# Altium footprint library ZZB_Lib.PcbLib: 83 footprints (part 5 of 6)
Each footprint in its own frame and in the unit in brackets; x right, y up, seen from the top. Pads: shape width x height; smd on the part's side, far side on the other; paste and mask are expansions set on the pad; w line width, h text height; cw(c..) or ccw(c..) is an arc to the next point about the centre after c.
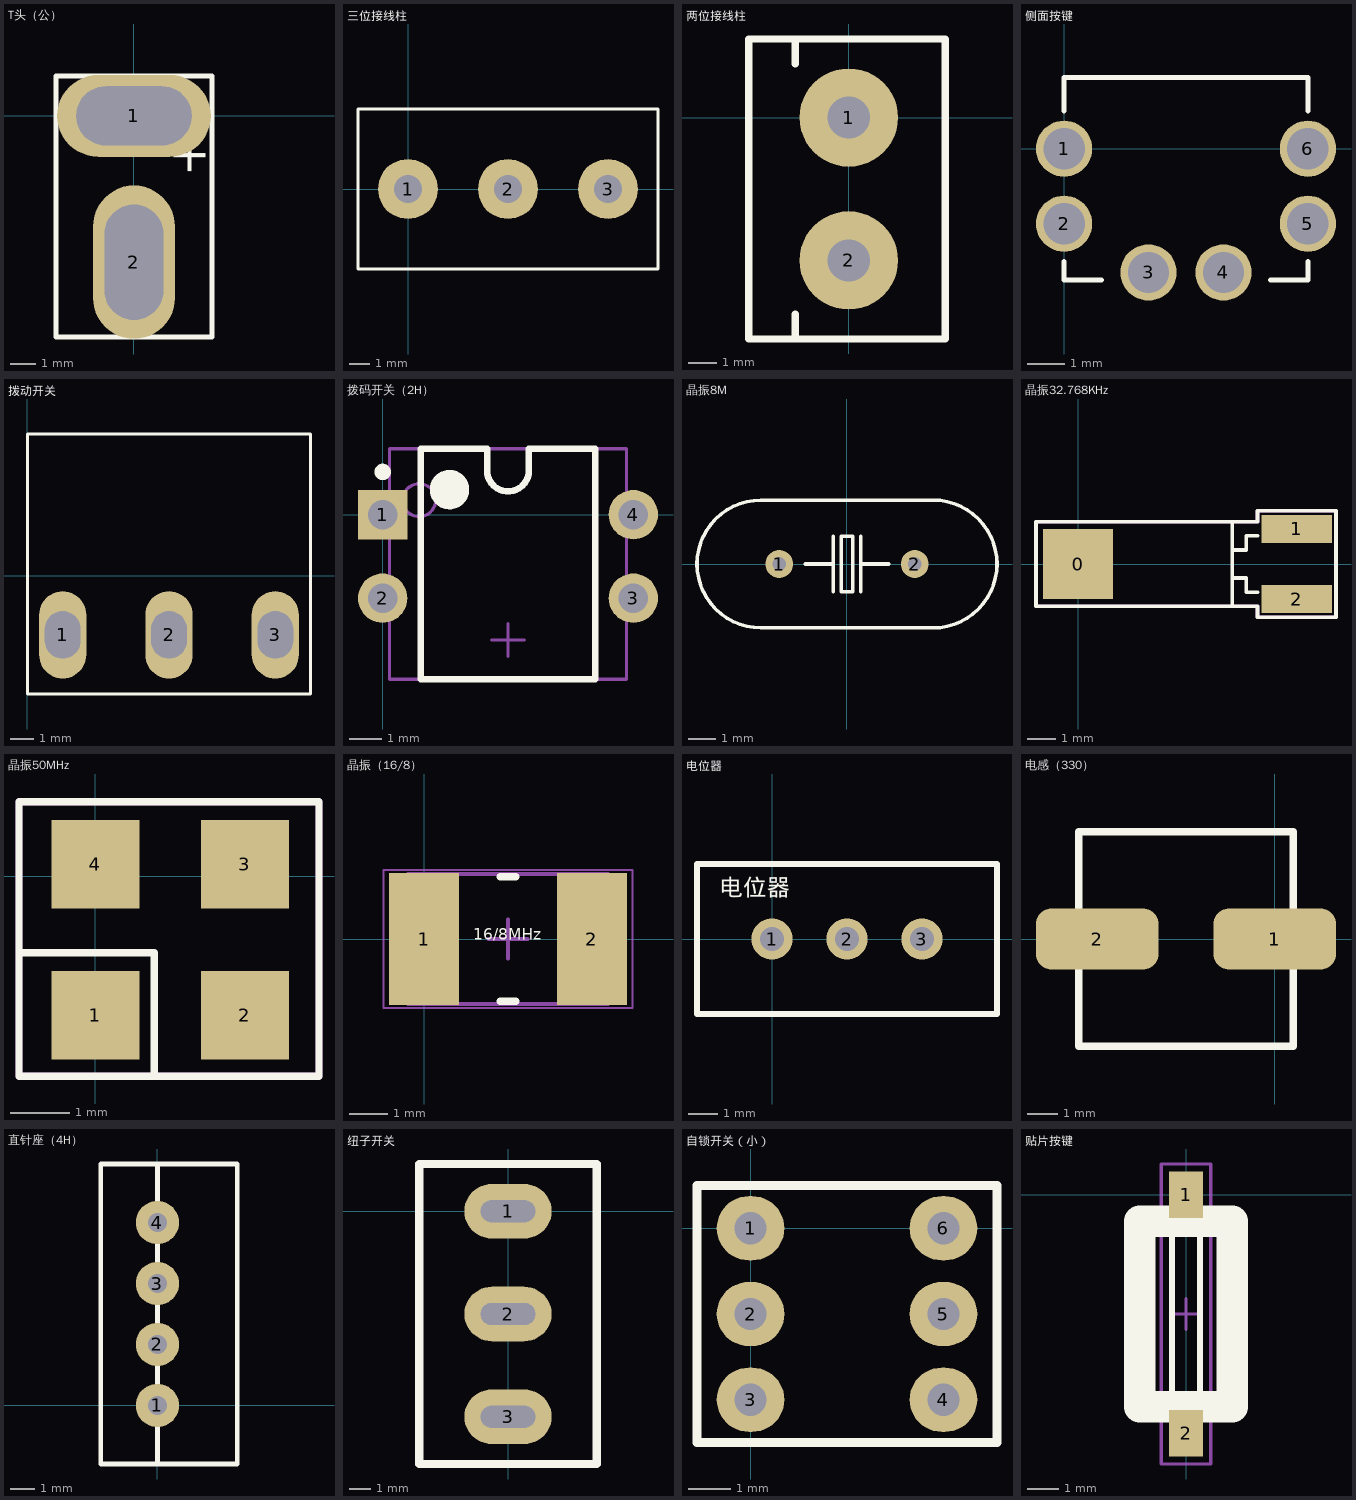
[diagram p4: the footprints below, top view; thin cyan lines are the x and y axes]

## T头（公） [mm]
pads (2):
  oval 6x3.2 hole 2.3 slot 4.5 at 0 deg: 1(0,0)
  oval 3.2x6 hole 2.3 slot 4.5 at 90 deg: 2(0,-5.715)
Top Overlay:
  lines w0.2: -3.048,-8.636 3.048,-8.636 3.048,1.55 -3.048,1.55 -3.048,-8.636
  text "+" at 3.285,-2.372 h2.5

## 三位接线柱 [mm]
height 10
pads (3):
  round 3 hole 1.4: 1(0,0) 2(5,0) 3(10,0)
Top Overlay:
  lines w0.127: -2.5,-4 12.5,-4 12.5,4 -2.5,4 -2.5,-4

## 两位接线柱 [mm]
pads (2):
  round 3.5 hole 1.5: 1(0,0) 2(0,-5.08)
Top Overlay:
  lines w0.254: -1.905,-7.874 -1.905,-6.985 ; -1.905,1.905 -1.905,2.794 ; -3.556,-7.874 3.429,-7.874 3.429,2.794 -3.556,2.794 -3.556,-7.874

## 侧面按键 [mm]
pads (6):
  round 1.5 hole 1.1: 1(0,0) 2(0,-2) 3(2.25,-3.3) 4(4.25,-3.3) 5(6.5,-2) 6(6.5,0)
Top Overlay:
  lines w0.127: 0,-3 0,-3.5 1,-3.5 ; 0,1 0,1.9 6.5,1.9 6.5,1 ; 5.5,-3.5 6.5,-3.5 6.5,-3

## 拨动开关 [mm]
pads (3):
  oval 2x3.7 hole 1.5 slot 2 at 90 deg: 1(1.5,-2.5) 2(6,-2.5) 3(10.5,-2.5)
Top Overlay:
  lines w0.127: 0,-5 0,-2.5 0,6 12,6 12,-5 0,-5

## 拨码开关（2H） [mm]
pads (4):
  rect 1.5x1.5 hole 0.9: 1(0,0)
  round 1.5 hole 0.9: 2(0,-2.54) 3(7.62,-2.54) 4(7.62,0)
Top Overlay:
  circle w0.6: c2.032,0.762 r0.3
  circle w0.25: c0,1.3 r0.125
  lines w0.2: 1.16,-5 6.46,-5 6.46,2 4.445,2 4.445,1.34 cw(c3.81,1.34) 3.175,1.34 3.175,2 1.16,2 1.16,-5
Mechanical 13:
  circle w0.1: c1.11,0.44 r0.5
  lines w0.1: 0.21,-5 7.41,-5 7.41,2 0.21,2 0.21,-5
Mechanical 15:
  lines w0.1: 3.31,-3.81 4.31,-3.81 ; 3.81,-4.31 3.81,-3.31
3D body: height 5.08, standoff 0, extent 0.21,-5 7.41,2

## 晶振8M [mm]
pads (2):
  round 1 hole 0.5: 1(-2.44,0) 2(2.44,0)
Top Overlay:
  lines w0.127: -1.5,0 -0.5,0 ; -0.5,-1 -0.5,1 ; 0.5,-1 0.5,1 ; 0.5,0 1.5,0 ; 3.1,-2.302 ccw(c3.1,0) 3.1,2.302 ; 3.1,-2.3 -3.1,-2.3 cw(c-3.1,0) -3.1,2.3 0,2.3 3.1,2.3 ; -0.2,-1 0.2,-1 0.2,1 -0.2,1 -0.2,-1

## 晶振32.768KHz [mm]
height 1.9
pads (3):
  rect 2.5x2.5 smd: 0(0,0)
  rect 2.5x1 smd: 1(7.8,1.25) 2(7.8,-1.25)
Top Overlay:
  lines w0.127: 5.5,-1.5 5.5,1.5 ; 5.5,-0.5 6,-0.5 6,-1 6.4,-1 ; 5.5,0.5 6,0.5 6,1 6.4,1 ; -1.5,-1.5 -1.5,1.5 6.4,1.5 6.4,1.9 9.2,1.9 9.2,-1.9 6.4,-1.9 6.4,-1.5 -1.5,-1.5
Mechanical 15:
  lines w0.127: -1.5,-1.5 6.4,-1.5 6.4,-1.9 9.2,-1.9 9.2,1.9 6.4,1.9 6.4,1.5 -1.5,1.5 -1.5,-1.5

## 晶振50MHz [mm]
height 1.2
pads (4):
  rect 1.5x1.5 smd: 1(0,-2.362) 2(2.54,-2.362) 3(2.54,0.203) 4(0,0.203)
Top Overlay:
  lines w0.127: -1.3,-1.3 1,-1.3 1,-3.404 ; -1.3,-3.404 -1.3,1.27 3.8,1.27 3.8,-3.404 -1.3,-3.404
Mechanical 15:
  lines w0.127: -1.3,-3.404 -1.3,1.27 3.8,1.27 3.8,-3.404 -1.3,-3.404

## 晶振（16/8） [mm] "Chip Capacitor, 2-Leads, Body 5.00x3.20mm, IPC Medium Density"
height 1.35
pads (2):
  rect 1.8x3.4 smd: 1(0,0) 2(4.318,0)
Top Overlay:
  lines w0.2: 1.959,-1.6 2.359,-1.6 ; 1.959,1.6 2.359,1.6
  text "16/8MHz" at 1.27,-0.127 h0.5
Mechanical 13:
  lines w0.1: -0.416,-1.675 -0.416,1.675 4.734,1.675 4.734,-1.675 -0.416,-1.675
Mechanical 15:
  lines w0.05: -1.041,-1.778 -1.041,1.778 5.359,1.778 5.359,-1.778 -1.041,-1.778
  lines w0.1: 1.659,0 2.659,0 ; 2.159,-0.5 2.159,0.5
3D body: height 1.35, standoff 0, extent 1.314,-1.675 3.004,1.675
3D body: height 1.35, standoff 0, extent -0.416,-1.675 1.314,1.675
3D body: height 1.35, standoff 0, extent 3.004,-1.675 4.734,1.675

## 电位器 [mm]
pads (3):
  round 1.4 hole 0.8: 1(0,0) 2(2.54,0) 3(5.08,0)
Top Overlay:
  lines w0.2: -2.54,-2.54 -2.54,2.54 7.62,2.54 7.62,-2.54 -2.54,-2.54
  text "电位器" at -1.778,1.27 h1

## 电感（330） [mm]
pads (2):
  rrect50% 4x2 smd: 1(0,0) 2(-5.8,0)
Top Overlay:
  lines w0.254: -6.4,-3.5 -6.4,3.5 0.6,3.5 0.6,-3.5 -6.4,-3.5

## 直针座（4H） [mm]
pads (4):
  round 1.8 hole 0.8: 1(0,0) 2(0,2.54) 3(0,5.08) 4(0,7.62)
Top Overlay:
  lines w0.2: -2.362,-2.44 3.327,-2.44 3.327,10.06 -2.362,10.06 -2.362,-2.413 ; 0,-2.438 0,10.06

## 纽子开关 [mm]
pads (3):
  oval 4x2.5 hole 1 slot 2.5 at 0 deg: 1(0,0) 2(0,-4.7) 3(0,-9.4)
Top Overlay:
  lines w0.381: -4.064,-11.558 4.064,-11.558 4.064,2.158 -4.064,2.158 -4.064,-11.558

## 自锁开关（小） [mm]
pads (6):
  oval 1.58x1.5 hole 0.75: 1(0,0) 2(0,-2) 3(0,-4) 4(4.5,-4) 5(4.5,-2) 6(4.5,0)
Top Overlay:
  lines w0.203: -1.25,-5 2.25,-5 5.75,-5 5.75,1 -1.25,1 -1.25,-5

## 贴片按键 [mm]
pads (2):
  rect 1.1x1.5 smd: 1(0,0) 2(0,-7.7)
Top Overlay:
  lines w0.2: -0.45,-6.55 -0.45,-1.15 ; 0.45,-6.55 0.45,-1.15
  lines w1.016: -1.5,-6.85 -1.5,-0.85 1.5,-0.85 1.5,-3.85 1.5,-6.85 -1.5,-6.85
Mechanical 13:
  lines w0.1: -0.5,-7.95 -0.5,0.25 0.5,0.25 0.5,-7.95 -0.5,-7.95
Mechanical 15:
  lines w0.1: -0.5,-3.85 0.5,-3.85 ; 0,-4.35 0,-3.35 ; -0.8,-8.7 -0.8,1 0.8,1 0.8,-8.7 -0.8,-8.7
3D body: height 0.6, standoff 0, extent -0.5,-7.95 0.5,0.25